# Altium integrated library Lattice SPLD GAL.IntLib: 360 symbols (part 1 of 9)
Pins are listed as number, name and electrical type; pins without a type are passive.

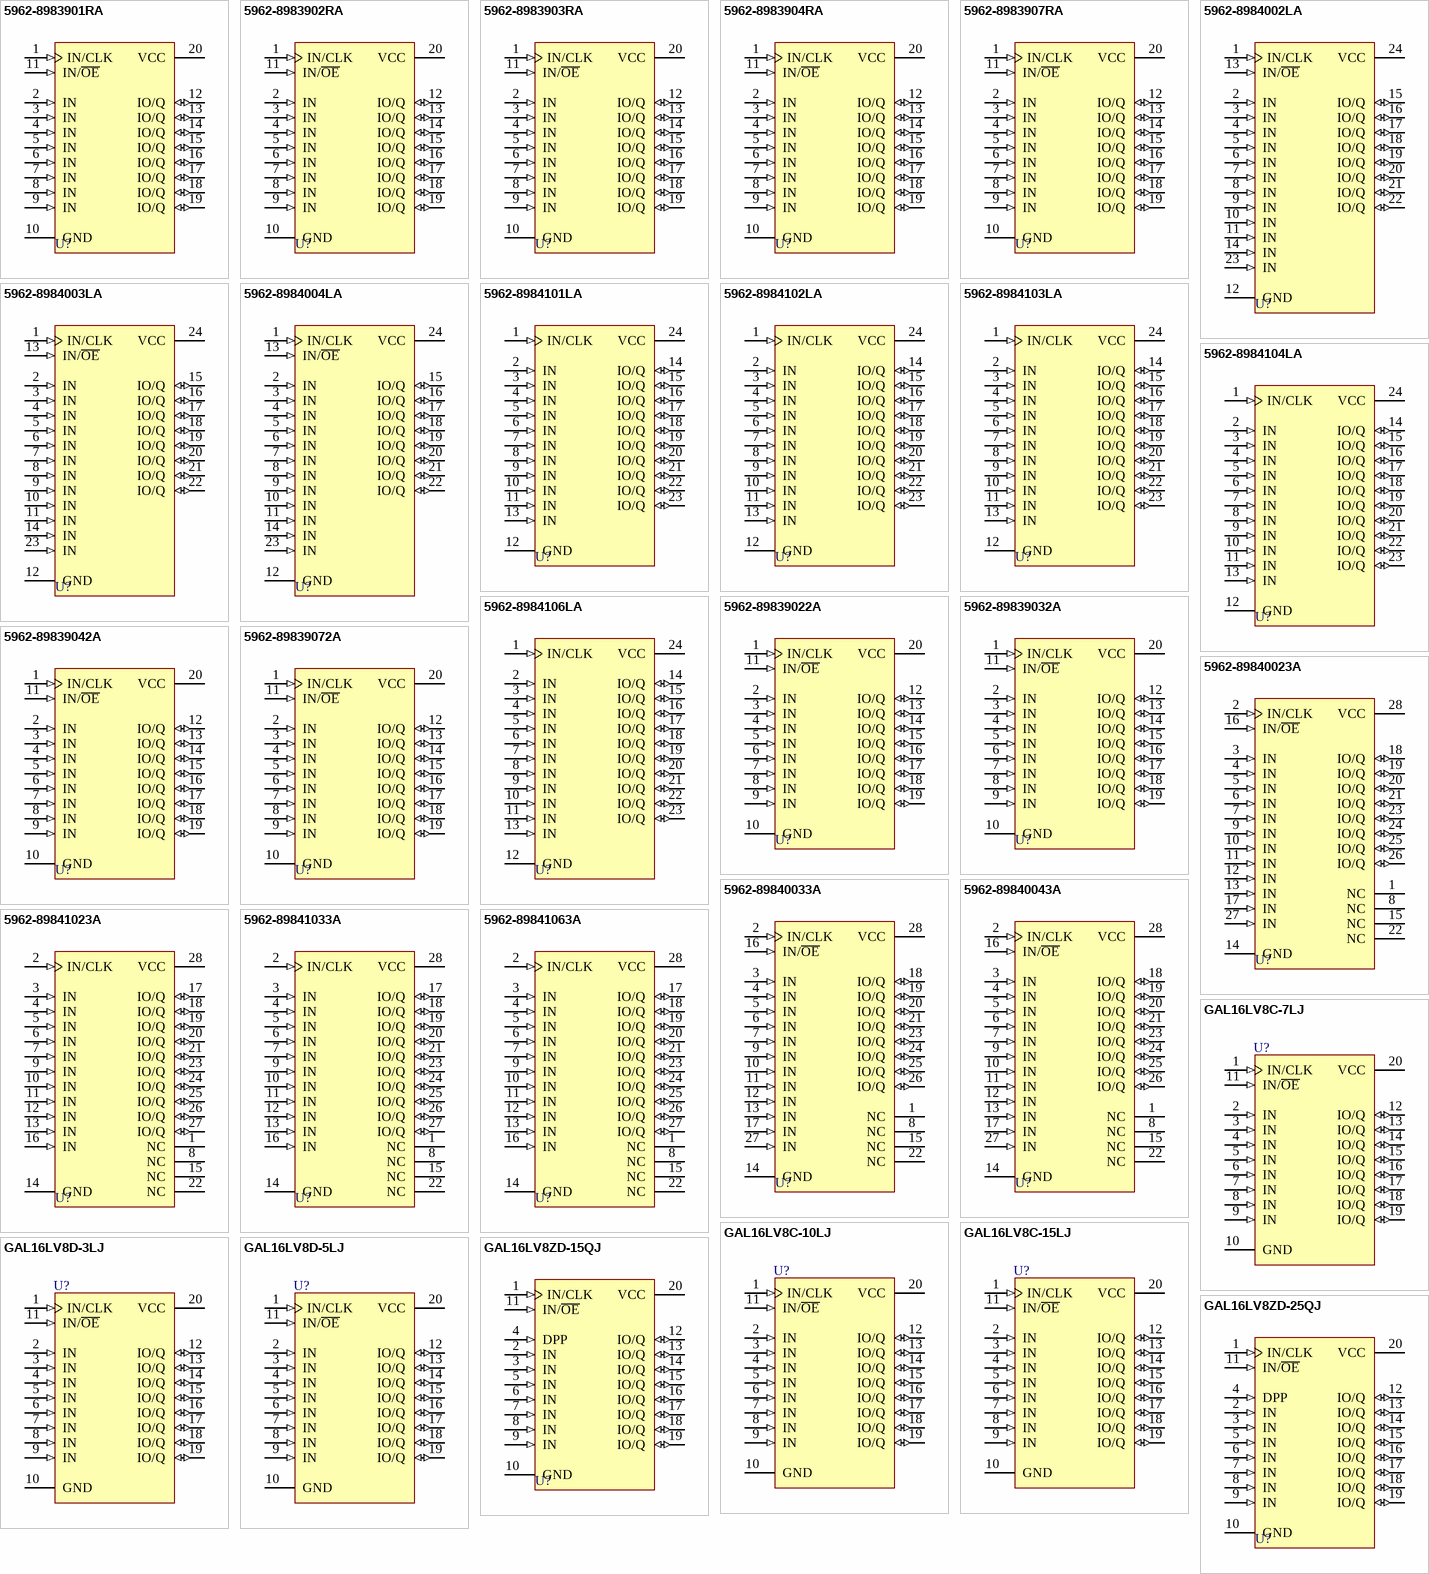
[diagram p0: symbols 5962-8983901RA to GAL16LV8ZD-25QJ]

## 5962-8983901RA
designator U?
GAL16V8/883 High Performance E²CMOS PLD Generic Array Logic: 5.0 V, 30 ns, Military Grade; Published: 17-Jul-2002; LatestRevisionDate: 04-Mar-2005; LatestRevisionNote: Stylized 3D Model Added.; DatasheetVersion: 16v8mil_03, Feb-1999; PackageVersion: pkg_32, Aug-2005; PackageReference: CDIP20; Publisher: Altium Limited; PackageDescription: CerDIP; 20 Leads; Row Spacing 7.62 mm; Pitch 2.54 mm; ComponentLink1Description: Manufacturer Link; ComponentLink1URL: http://www.latticesemi.com/products/spld/GAL/index.cfm; ComponentLink2Description: Datasheet; ComponentLink2URL: http://www.latticesemi.com/lit/docs/military/16v8mil.pdf
footprint CDIP20 (CerDIP; 20 Leads; Row Spacing 7.62 mm; Pitch 2.54 mm)
3D model CDIP20 (CerDIP; 20 Leads; Row Spacing 7.62 mm; Pitch 2.54 mm)
pins: 1 IN/CLK (in), 2 IN (in), 3 IN (in), 4 IN (in), 5 IN (in), 6 IN (in), 7 IN (in), 8 IN (in), 9 IN (in), 10 GND (power), 11 IN/~{OE} (in), 12 IO/Q (io), 13 IO/Q (io), 14 IO/Q (io), 15 IO/Q (io), 16 IO/Q (io), 17 IO/Q (io), 18 IO/Q (io), 19 IO/Q (io), 20 VCC (power)

## 5962-8983902RA
designator U?
GAL16V8/883 High Performance E²CMOS PLD Generic Array Logic: 5.0 V, 20 ns, Military Grade; Published: 17-Jul-2002; LatestRevisionDate: 04-Mar-2005; LatestRevisionNote: Stylized 3D Model Added.; DatasheetVersion: 16v8mil_03, Feb-1999; PackageVersion: pkg_32, Aug-2005; PackageReference: CDIP20; Publisher: Altium Limited; PackageDescription: CerDIP; 20 Leads; Row Spacing 7.62 mm; Pitch 2.54 mm; ComponentLink1Description: Manufacturer Link; ComponentLink1URL: http://www.latticesemi.com/products/spld/GAL/index.cfm; ComponentLink2Description: Datasheet; ComponentLink2URL: http://www.latticesemi.com/lit/docs/military/16v8mil.pdf
footprint CDIP20 (CerDIP; 20 Leads; Row Spacing 7.62 mm; Pitch 2.54 mm)
3D model CDIP20 (CerDIP; 20 Leads; Row Spacing 7.62 mm; Pitch 2.54 mm)
pins: 1 IN/CLK (in), 2 IN (in), 3 IN (in), 4 IN (in), 5 IN (in), 6 IN (in), 7 IN (in), 8 IN (in), 9 IN (in), 10 GND (power), 11 IN/~{OE} (in), 12 IO/Q (io), 13 IO/Q (io), 14 IO/Q (io), 15 IO/Q (io), 16 IO/Q (io), 17 IO/Q (io), 18 IO/Q (io), 19 IO/Q (io), 20 VCC (power)

## 5962-8983903RA
designator U?
GAL16V8/883 High Performance E²CMOS PLD Generic Array Logic: 5.0 V, 15 ns, Military Grade; Published: 17-Jul-2002; LatestRevisionDate: 04-Mar-2005; LatestRevisionNote: Stylized 3D Model Added.; DatasheetVersion: 16v8mil_03, Feb-1999; PackageVersion: pkg_32, Aug-2005; PackageReference: CDIP20; Publisher: Altium Limited; PackageDescription: CerDIP; 20 Leads; Row Spacing 7.62 mm; Pitch 2.54 mm; ComponentLink1Description: Manufacturer Link; ComponentLink1URL: http://www.latticesemi.com/products/spld/GAL/index.cfm; ComponentLink2Description: Datasheet; ComponentLink2URL: http://www.latticesemi.com/lit/docs/military/16v8mil.pdf
footprint CDIP20 (CerDIP; 20 Leads; Row Spacing 7.62 mm; Pitch 2.54 mm)
3D model CDIP20 (CerDIP; 20 Leads; Row Spacing 7.62 mm; Pitch 2.54 mm)
pins: 1 IN/CLK (in), 2 IN (in), 3 IN (in), 4 IN (in), 5 IN (in), 6 IN (in), 7 IN (in), 8 IN (in), 9 IN (in), 10 GND (power), 11 IN/~{OE} (in), 12 IO/Q (io), 13 IO/Q (io), 14 IO/Q (io), 15 IO/Q (io), 16 IO/Q (io), 17 IO/Q (io), 18 IO/Q (io), 19 IO/Q (io), 20 VCC (power)

## 5962-8983904RA
designator U?
GAL16V8/883 High Performance E²CMOS PLD Generic Array Logic: 5.0 V, 10 ns, Military Grade; Published: 17-Jul-2002; LatestRevisionDate: 04-Mar-2005; LatestRevisionNote: Stylized 3D Model Added.; DatasheetVersion: 16v8mil_03, Feb-1999; PackageVersion: pkg_32, Aug-2005; PackageReference: CDIP20; Publisher: Altium Limited; PackageDescription: CerDIP; 20 Leads; Row Spacing 7.62 mm; Pitch 2.54 mm; ComponentLink1Description: Manufacturer Link; ComponentLink1URL: http://www.latticesemi.com/products/spld/GAL/index.cfm; ComponentLink2Description: Datasheet; ComponentLink2URL: http://www.latticesemi.com/lit/docs/military/16v8mil.pdf
footprint CDIP20 (CerDIP; 20 Leads; Row Spacing 7.62 mm; Pitch 2.54 mm)
3D model CDIP20 (CerDIP; 20 Leads; Row Spacing 7.62 mm; Pitch 2.54 mm)
pins: 1 IN/CLK (in), 2 IN (in), 3 IN (in), 4 IN (in), 5 IN (in), 6 IN (in), 7 IN (in), 8 IN (in), 9 IN (in), 10 GND (power), 11 IN/~{OE} (in), 12 IO/Q (io), 13 IO/Q (io), 14 IO/Q (io), 15 IO/Q (io), 16 IO/Q (io), 17 IO/Q (io), 18 IO/Q (io), 19 IO/Q (io), 20 VCC (power)

## 5962-8983907RA
designator U?
GAL16V8/883 High Performance E²CMOS PLD Generic Array Logic: 5.0 V, 7.5 ns, Military Grade; Published: 17-Jul-2002; LatestRevisionDate: 04-Mar-2005; LatestRevisionNote: Stylized 3D Model Added.; DatasheetVersion: 16v8mil_03, Feb-1999; PackageVersion: pkg_32, Aug-2005; PackageReference: CDIP20; Publisher: Altium Limited; PackageDescription: CerDIP; 20 Leads; Row Spacing 7.62 mm; Pitch 2.54 mm; ComponentLink1Description: Manufacturer Link; ComponentLink1URL: http://www.latticesemi.com/products/spld/GAL/index.cfm; ComponentLink2Description: Datasheet; ComponentLink2URL: http://www.latticesemi.com/lit/docs/military/16v8mil.pdf
footprint CDIP20 (CerDIP; 20 Leads; Row Spacing 7.62 mm; Pitch 2.54 mm)
3D model CDIP20 (CerDIP; 20 Leads; Row Spacing 7.62 mm; Pitch 2.54 mm)
pins: 1 IN/CLK (in), 2 IN (in), 3 IN (in), 4 IN (in), 5 IN (in), 6 IN (in), 7 IN (in), 8 IN (in), 9 IN (in), 10 GND (power), 11 IN/~{OE} (in), 12 IO/Q (io), 13 IO/Q (io), 14 IO/Q (io), 15 IO/Q (io), 16 IO/Q (io), 17 IO/Q (io), 18 IO/Q (io), 19 IO/Q (io), 20 VCC (power)

## 5962-8984002LA
designator U?
GAL20V8/883 High Performance E²CMOS PLD Generic Array Logic: 5.0 V, 20 ns, Military Grade; Published: 17-Jul-2002; LatestRevisionDate: 04-Mar-2005; LatestRevisionNote: Stylized 3D Model Added.; DatasheetVersion: 20v8mil_02, Jul-1997; PackageVersion: pkg_32, Aug-2005; PackageReference: CDIP24; Publisher: Altium Limited; PackageDescription: CerDIP; 24 Leads; Row Spacing 7.62 mm; Pitch 2.54 mm; Code_JEDEC: MS-001-AF; ComponentLink1Description: Manufacturer Link; ComponentLink1URL: http://www.latticesemi.com/products/spld/GAL/index.cfm; ComponentLink2Description: Datasheet; ComponentLink2URL: http://www.latticesemi.com/lit/docs/military/20v8mil.pdf
footprint CDIP24 (CerDIP; 24 Leads; Row Spacing 7.62 mm; Pitch 2.54 mm)
3D model DIP24 (CerDIP; 24 Leads; Row Spacing 7.62 mm; Pitch 2.54 mm)
pins: 1 IN/CLK (in), 2 IN (in), 3 IN (in), 4 IN (in), 5 IN (in), 6 IN (in), 7 IN (in), 8 IN (in), 9 IN (in), 10 IN (in), 11 IN (in), 12 GND (power), 13 IN/~{OE} (in), 14 IN (in), 15 IO/Q (io), 16 IO/Q (io), 17 IO/Q (io), 18 IO/Q (io), 19 IO/Q (io), 20 IO/Q (io), 21 IO/Q (io), 22 IO/Q (io), 23 IN (in), 24 VCC (power)

## 5962-8984003LA
designator U?
GAL20V8/883 High Performance E²CMOS PLD Generic Array Logic: 5.0 V, 15 ns, Military Grade; Published: 17-Jul-2002; LatestRevisionDate: 04-Mar-2005; LatestRevisionNote: Stylized 3D Model Added.; DatasheetVersion: 20v8mil_02, Jul-1997; PackageVersion: pkg_32, Aug-2005; PackageReference: CDIP24; Publisher: Altium Limited; PackageDescription: CerDIP; 24 Leads; Row Spacing 7.62 mm; Pitch 2.54 mm; Code_JEDEC: MS-001-AF; ComponentLink1Description: Manufacturer Link; ComponentLink1URL: http://www.latticesemi.com/products/spld/GAL/index.cfm; ComponentLink2Description: Datasheet; ComponentLink2URL: http://www.latticesemi.com/lit/docs/military/20v8mil.pdf
footprint CDIP24 (CerDIP; 24 Leads; Row Spacing 7.62 mm; Pitch 2.54 mm)
3D model DIP24 (CerDIP; 24 Leads; Row Spacing 7.62 mm; Pitch 2.54 mm)
pins: 1 IN/CLK (in), 2 IN (in), 3 IN (in), 4 IN (in), 5 IN (in), 6 IN (in), 7 IN (in), 8 IN (in), 9 IN (in), 10 IN (in), 11 IN (in), 12 GND (power), 13 IN/~{OE} (in), 14 IN (in), 15 IO/Q (io), 16 IO/Q (io), 17 IO/Q (io), 18 IO/Q (io), 19 IO/Q (io), 20 IO/Q (io), 21 IO/Q (io), 22 IO/Q (io), 23 IN (in), 24 VCC (power)

## 5962-8984004LA
designator U?
GAL20V8/883 High Performance E²CMOS PLD Generic Array Logic: 5.0 V, 10 ns, Military Grade; Published: 17-Jul-2002; LatestRevisionDate: 04-Mar-2005; LatestRevisionNote: Stylized 3D Model Added.; DatasheetVersion: 20v8mil_02, Jul-1997; PackageVersion: pkg_32, Aug-2005; PackageReference: CDIP24; Publisher: Altium Limited; PackageDescription: CerDIP; 24 Leads; Row Spacing 7.62 mm; Pitch 2.54 mm; Code_JEDEC: MS-001-AF; ComponentLink1Description: Manufacturer Link; ComponentLink1URL: http://www.latticesemi.com/products/spld/GAL/index.cfm; ComponentLink2Description: Datasheet; ComponentLink2URL: http://www.latticesemi.com/lit/docs/military/20v8mil.pdf
footprint CDIP24 (CerDIP; 24 Leads; Row Spacing 7.62 mm; Pitch 2.54 mm)
3D model DIP24 (CerDIP; 24 Leads; Row Spacing 7.62 mm; Pitch 2.54 mm)
pins: 1 IN/CLK (in), 2 IN (in), 3 IN (in), 4 IN (in), 5 IN (in), 6 IN (in), 7 IN (in), 8 IN (in), 9 IN (in), 10 IN (in), 11 IN (in), 12 GND (power), 13 IN/~{OE} (in), 14 IN (in), 15 IO/Q (io), 16 IO/Q (io), 17 IO/Q (io), 18 IO/Q (io), 19 IO/Q (io), 20 IO/Q (io), 21 IO/Q (io), 22 IO/Q (io), 23 IN (in), 24 VCC (power)

## 5962-8984101LA
designator U?
GAL22V10/883 High Performance E²CMOS PLD Generic Array Logic: 5.0 V, 30 ns, Military Grade; Published: 17-Jul-2002; LatestRevisionDate: 04-Mar-2005; LatestRevisionNote: Stylized 3D Model Added.; DatasheetVersion: 22v10mil_04, Feb-1999; PackageVersion: pkg_32, Aug-2005; PackageReference: CDIP24; Publisher: Altium Limited; PackageDescription: CerDIP; 24 Leads; Row Spacing 7.62 mm; Pitch 2.54 mm; Code_JEDEC: MS-001-AF; ComponentLink1Description: Manufacturer Link; ComponentLink1URL: http://www.latticesemi.com/products/spld/GAL/index.cfm
footprint CDIP24 (CerDIP; 24 Leads; Row Spacing 7.62 mm; Pitch 2.54 mm)
3D model DIP24 (CerDIP; 24 Leads; Row Spacing 7.62 mm; Pitch 2.54 mm)
pins: 1 IN/CLK (in), 2 IN (in), 3 IN (in), 4 IN (in), 5 IN (in), 6 IN (in), 7 IN (in), 8 IN (in), 9 IN (in), 10 IN (in), 11 IN (in), 12 GND (power), 13 IN (in), 14 IO/Q (io), 15 IO/Q (io), 16 IO/Q (io), 17 IO/Q (io), 18 IO/Q (io), 19 IO/Q (io), 20 IO/Q (io), 21 IO/Q (io), 22 IO/Q (io), 23 IO/Q (io), 24 VCC (power)

## 5962-8984102LA
designator U?
GAL22V10/883 High Performance E²CMOS PLD Generic Array Logic: 5.0 V, 20 ns, Military Grade; Published: 17-Jul-2002; LatestRevisionDate: 04-Mar-2005; LatestRevisionNote: Stylized 3D Model Added.; DatasheetVersion: 22v10mil_04, Feb-1999; PackageVersion: pkg_32, Aug-2005; PackageReference: CDIP24; Publisher: Altium Limited; PackageDescription: CerDIP; 24 Leads; Row Spacing 7.62 mm; Pitch 2.54 mm; Code_JEDEC: MS-001-AF; ComponentLink1Description: Manufacturer Link; ComponentLink1URL: http://www.latticesemi.com/products/spld/GAL/index.cfm
footprint CDIP24 (CerDIP; 24 Leads; Row Spacing 7.62 mm; Pitch 2.54 mm)
3D model DIP24 (CerDIP; 24 Leads; Row Spacing 7.62 mm; Pitch 2.54 mm)
pins: 1 IN/CLK (in), 2 IN (in), 3 IN (in), 4 IN (in), 5 IN (in), 6 IN (in), 7 IN (in), 8 IN (in), 9 IN (in), 10 IN (in), 11 IN (in), 12 GND (power), 13 IN (in), 14 IO/Q (io), 15 IO/Q (io), 16 IO/Q (io), 17 IO/Q (io), 18 IO/Q (io), 19 IO/Q (io), 20 IO/Q (io), 21 IO/Q (io), 22 IO/Q (io), 23 IO/Q (io), 24 VCC (power)

## 5962-8984103LA
designator U?
GAL22V10/883 High Performance E²CMOS PLD Generic Array Logic: 5.0 V, 15 ns, Military Grade; Published: 17-Jul-2002; LatestRevisionDate: 04-Mar-2005; LatestRevisionNote: Stylized 3D Model Added.; DatasheetVersion: 22v10mil_04, Feb-1999; PackageVersion: pkg_32, Aug-2005; PackageReference: CDIP24; Publisher: Altium Limited; PackageDescription: CerDIP; 24 Leads; Row Spacing 7.62 mm; Pitch 2.54 mm; Code_JEDEC: MS-001-AF; ComponentLink1Description: Manufacturer Link; ComponentLink1URL: http://www.latticesemi.com/products/spld/GAL/index.cfm
footprint CDIP24 (CerDIP; 24 Leads; Row Spacing 7.62 mm; Pitch 2.54 mm)
3D model DIP24 (CerDIP; 24 Leads; Row Spacing 7.62 mm; Pitch 2.54 mm)
pins: 1 IN/CLK (in), 2 IN (in), 3 IN (in), 4 IN (in), 5 IN (in), 6 IN (in), 7 IN (in), 8 IN (in), 9 IN (in), 10 IN (in), 11 IN (in), 12 GND (power), 13 IN (in), 14 IO/Q (io), 15 IO/Q (io), 16 IO/Q (io), 17 IO/Q (io), 18 IO/Q (io), 19 IO/Q (io), 20 IO/Q (io), 21 IO/Q (io), 22 IO/Q (io), 23 IO/Q (io), 24 VCC (power)

## 5962-8984104LA
designator U?
GAL22V10/883 High Performance E²CMOS PLD Generic Array Logic: 5.0 V, 25 ns, Military Grade; Published: 17-Jul-2002; LatestRevisionDate: 04-Mar-2005; LatestRevisionNote: Stylized 3D Model Added.; DatasheetVersion: 22v10mil_04, Feb-1999; PackageVersion: pkg_32, Aug-2005; PackageReference: CDIP24; Publisher: Altium Limited; PackageDescription: CerDIP; 24 Leads; Row Spacing 7.62 mm; Pitch 2.54 mm; Code_JEDEC: MS-001-AF; ComponentLink1Description: Manufacturer Link; ComponentLink1URL: http://www.latticesemi.com/products/spld/GAL/index.cfm
footprint CDIP24 (CerDIP; 24 Leads; Row Spacing 7.62 mm; Pitch 2.54 mm)
3D model DIP24 (CerDIP; 24 Leads; Row Spacing 7.62 mm; Pitch 2.54 mm)
pins: 1 IN/CLK (in), 2 IN (in), 3 IN (in), 4 IN (in), 5 IN (in), 6 IN (in), 7 IN (in), 8 IN (in), 9 IN (in), 10 IN (in), 11 IN (in), 12 GND (power), 13 IN (in), 14 IO/Q (io), 15 IO/Q (io), 16 IO/Q (io), 17 IO/Q (io), 18 IO/Q (io), 19 IO/Q (io), 20 IO/Q (io), 21 IO/Q (io), 22 IO/Q (io), 23 IO/Q (io), 24 VCC (power)

## 5962-8984106LA
designator U?
GAL22V10/883 High Performance E²CMOS PLD Generic Array Logic: 5.0 V, 10 ns, Military Grade; Published: 17-Jul-2002; LatestRevisionDate: 04-Mar-2005; LatestRevisionNote: Stylized 3D Model Added.; DatasheetVersion: 22v10mil_04, Feb-1999; PackageVersion: pkg_32, Aug-2005; PackageReference: CDIP24; Publisher: Altium Limited; PackageDescription: CerDIP; 24 Leads; Row Spacing 7.62 mm; Pitch 2.54 mm; Code_JEDEC: MS-001-AF; ComponentLink1Description: Manufacturer Link; ComponentLink1URL: http://www.latticesemi.com/products/spld/GAL/index.cfm
footprint CDIP24 (CerDIP; 24 Leads; Row Spacing 7.62 mm; Pitch 2.54 mm)
3D model DIP24 (CerDIP; 24 Leads; Row Spacing 7.62 mm; Pitch 2.54 mm)
pins: 1 IN/CLK (in), 2 IN (in), 3 IN (in), 4 IN (in), 5 IN (in), 6 IN (in), 7 IN (in), 8 IN (in), 9 IN (in), 10 IN (in), 11 IN (in), 12 GND (power), 13 IN (in), 14 IO/Q (io), 15 IO/Q (io), 16 IO/Q (io), 17 IO/Q (io), 18 IO/Q (io), 19 IO/Q (io), 20 IO/Q (io), 21 IO/Q (io), 22 IO/Q (io), 23 IO/Q (io), 24 VCC (power)

## 5962-89839022A
designator U?
GAL16V8/883 High Performance E²CMOS PLD Generic Array Logic: 5.0 V, 20 ns, Military Grade; Published: 17-Jul-2002; DatasheetVersion: 16v8mil_03, Feb-1999; PackageVersion: pkg_32, Aug-2005; PackageReference: LCC20; Publisher: Altium Limited; PackageDescription: Leadless Chip Carrier; 20 Terminals; Body 8.9 x 8.9 mm; ComponentLink1Description: Manufacturer Link; ComponentLink1URL: http://www.latticesemi.com/products/spld/GAL/index.cfm; ComponentLink2Description: Datasheet; ComponentLink2URL: http://www.latticesemi.com/lit/docs/military/16v8mil.pdf
footprint LCC20 (Leadless Chip Carrier; 20 Terminals; Body 8.9 x 8.9 mm)
pins: 1 IN/CLK (in), 2 IN (in), 3 IN (in), 4 IN (in), 5 IN (in), 6 IN (in), 7 IN (in), 8 IN (in), 9 IN (in), 10 GND (power), 11 IN/~{OE} (in), 12 IO/Q (io), 13 IO/Q (io), 14 IO/Q (io), 15 IO/Q (io), 16 IO/Q (io), 17 IO/Q (io), 18 IO/Q (io), 19 IO/Q (io), 20 VCC (power)

## 5962-89839032A
designator U?
GAL16V8/883 High Performance E²CMOS PLD Generic Array Logic: 5.0 V, 15 ns, Military Grade; Published: 17-Jul-2002; DatasheetVersion: 16v8mil_03, Feb-1999; PackageVersion: pkg_32, Aug-2005; PackageReference: LCC20; Publisher: Altium Limited; PackageDescription: Leadless Chip Carrier; 20 Terminals; Body 8.9 x 8.9 mm; ComponentLink1Description: Manufacturer Link; ComponentLink1URL: http://www.latticesemi.com/products/spld/GAL/index.cfm; ComponentLink2Description: Datasheet; ComponentLink2URL: http://www.latticesemi.com/lit/docs/military/16v8mil.pdf
footprint LCC20 (Leadless Chip Carrier; 20 Terminals; Body 8.9 x 8.9 mm)
pins: 1 IN/CLK (in), 2 IN (in), 3 IN (in), 4 IN (in), 5 IN (in), 6 IN (in), 7 IN (in), 8 IN (in), 9 IN (in), 10 GND (power), 11 IN/~{OE} (in), 12 IO/Q (io), 13 IO/Q (io), 14 IO/Q (io), 15 IO/Q (io), 16 IO/Q (io), 17 IO/Q (io), 18 IO/Q (io), 19 IO/Q (io), 20 VCC (power)

## 5962-89839042A
designator U?
GAL16V8/883 High Performance E²CMOS PLD Generic Array Logic: 5.0 V, 10 ns, Military Grade; Published: 17-Jul-2002; DatasheetVersion: 16v8mil_03, Feb-1999; PackageVersion: pkg_32, Aug-2005; PackageReference: LCC20; Publisher: Altium Limited; PackageDescription: Leadless Chip Carrier; 20 Terminals; Body 8.9 x 8.9 mm; ComponentLink1Description: Manufacturer Link; ComponentLink1URL: http://www.latticesemi.com/products/spld/GAL/index.cfm; ComponentLink2Description: Datasheet; ComponentLink2URL: http://www.latticesemi.com/lit/docs/military/16v8mil.pdf
footprint LCC20 (Leadless Chip Carrier; 20 Terminals; Body 8.9 x 8.9 mm)
pins: 1 IN/CLK (in), 2 IN (in), 3 IN (in), 4 IN (in), 5 IN (in), 6 IN (in), 7 IN (in), 8 IN (in), 9 IN (in), 10 GND (power), 11 IN/~{OE} (in), 12 IO/Q (io), 13 IO/Q (io), 14 IO/Q (io), 15 IO/Q (io), 16 IO/Q (io), 17 IO/Q (io), 18 IO/Q (io), 19 IO/Q (io), 20 VCC (power)

## 5962-89839072A
designator U?
GAL16V8/883 High Performance E²CMOS PLD Generic Array Logic: 5.0 V, 7.5 ns, Military Grade; Published: 17-Jul-2002; DatasheetVersion: 16v8mil_03, Feb-1999; PackageVersion: pkg_32, Aug-2005; PackageReference: LCC20; Publisher: Altium Limited; PackageDescription: Leadless Chip Carrier; 20 Terminals; Body 8.9 x 8.9 mm; ComponentLink1Description: Manufacturer Link; ComponentLink1URL: http://www.latticesemi.com/products/spld/GAL/index.cfm; ComponentLink2Description: Datasheet; ComponentLink2URL: http://www.latticesemi.com/lit/docs/military/16v8mil.pdf
footprint LCC20 (Leadless Chip Carrier; 20 Terminals; Body 8.9 x 8.9 mm)
pins: 1 IN/CLK (in), 2 IN (in), 3 IN (in), 4 IN (in), 5 IN (in), 6 IN (in), 7 IN (in), 8 IN (in), 9 IN (in), 10 GND (power), 11 IN/~{OE} (in), 12 IO/Q (io), 13 IO/Q (io), 14 IO/Q (io), 15 IO/Q (io), 16 IO/Q (io), 17 IO/Q (io), 18 IO/Q (io), 19 IO/Q (io), 20 VCC (power)

## 5962-89840023A
designator U?
GAL20V8/883 High Performance E²CMOS PLD Generic Array Logic: 5.0 V, 20 ns, Military Grade; Published: 17-Jul-2002; DatasheetVersion: 20v8mil_02, Jul-1997; PackageVersion: pkg_32, Aug-2005; PackageReference: LCC28; Publisher: Altium Limited; PackageDescription: Leadless Chip Carrier; 28 Terminals; Body 11.5 x 11.5 mm; ComponentLink1Description: Manufacturer Link; ComponentLink1URL: http://www.latticesemi.com/products/spld/GAL/index.cfm; ComponentLink2Description: Datasheet; ComponentLink2URL: http://www.latticesemi.com/lit/docs/military/20v8mil.pdf
footprint LCC28 (Leadless Chip Carrier; 28 Terminals; Body 11.5 x 11.5 mm)
pins: 1 NC, 2 IN/CLK (in), 3 IN (in), 4 IN (in), 5 IN (in), 6 IN (in), 7 IN (in), 8 NC, 9 IN (in), 10 IN (in), 11 IN (in), 12 IN (in), 13 IN (in), 14 GND (power), 15 NC, 16 IN/~{OE} (in), 17 IN (in), 18 IO/Q (io), 19 IO/Q (io), 20 IO/Q (io), 21 IO/Q (io), 22 NC, 23 IO/Q (io), 24 IO/Q (io), 25 IO/Q (io), 26 IO/Q (io), 27 IN (in), 28 VCC (power)

## 5962-89840033A
designator U?
GAL20V8/883 High Performance E²CMOS PLD Generic Array Logic: 5.0 V, 15 ns, Military Grade; Published: 17-Jul-2002; DatasheetVersion: 20v8mil_02, Jul-1997; PackageVersion: pkg_32, Aug-2005; PackageReference: LCC28; Publisher: Altium Limited; PackageDescription: Leadless Chip Carrier; 28 Terminals; Body 11.5 x 11.5 mm; ComponentLink1Description: Manufacturer Link; ComponentLink1URL: http://www.latticesemi.com/products/spld/GAL/index.cfm; ComponentLink2Description: Datasheet; ComponentLink2URL: http://www.latticesemi.com/lit/docs/military/20v8mil.pdf
footprint LCC28 (Leadless Chip Carrier; 28 Terminals; Body 11.5 x 11.5 mm)
pins: 1 NC, 2 IN/CLK (in), 3 IN (in), 4 IN (in), 5 IN (in), 6 IN (in), 7 IN (in), 8 NC, 9 IN (in), 10 IN (in), 11 IN (in), 12 IN (in), 13 IN (in), 14 GND (power), 15 NC, 16 IN/~{OE} (in), 17 IN (in), 18 IO/Q (io), 19 IO/Q (io), 20 IO/Q (io), 21 IO/Q (io), 22 NC, 23 IO/Q (io), 24 IO/Q (io), 25 IO/Q (io), 26 IO/Q (io), 27 IN (in), 28 VCC (power)

## 5962-89840043A
designator U?
GAL20V8/883 High Performance E²CMOS PLD Generic Array Logic: 5.0 V, 10 ns, Military Grade; Published: 17-Jul-2002; DatasheetVersion: 20v8mil_02, Jul-1997; PackageVersion: pkg_32, Aug-2005; PackageReference: LCC28; Publisher: Altium Limited; PackageDescription: Leadless Chip Carrier; 28 Terminals; Body 11.5 x 11.5 mm; ComponentLink1Description: Manufacturer Link; ComponentLink1URL: http://www.latticesemi.com/products/spld/GAL/index.cfm; ComponentLink2Description: Datasheet; ComponentLink2URL: http://www.latticesemi.com/lit/docs/military/20v8mil.pdf
footprint LCC28 (Leadless Chip Carrier; 28 Terminals; Body 11.5 x 11.5 mm)
pins: 1 NC, 2 IN/CLK (in), 3 IN (in), 4 IN (in), 5 IN (in), 6 IN (in), 7 IN (in), 8 NC, 9 IN (in), 10 IN (in), 11 IN (in), 12 IN (in), 13 IN (in), 14 GND (power), 15 NC, 16 IN/~{OE} (in), 17 IN (in), 18 IO/Q (io), 19 IO/Q (io), 20 IO/Q (io), 21 IO/Q (io), 22 NC, 23 IO/Q (io), 24 IO/Q (io), 25 IO/Q (io), 26 IO/Q (io), 27 IN (in), 28 VCC (power)

## 5962-89841023A
designator U?
GAL22V10/883 High Performance E²CMOS PLD Generic Array Logic: 5.0 V, 20 ns, Military Grade; Published: 17-Jul-2002; DatasheetVersion: 22v10mil_04, Feb-1999; PackageVersion: pkg_32, Aug-2005; PackageReference: LCC28; Publisher: Altium Limited; PackageDescription: Leadless Chip Carrier; 28 Terminals; Body 11.5 x 11.5 mm; ComponentLink1Description: Manufacturer Link; ComponentLink1URL: http://www.latticesemi.com/products/spld/GAL/index.cfm
footprint LCC28 (Leadless Chip Carrier; 28 Terminals; Body 11.5 x 11.5 mm)
pins: 1 NC, 2 IN/CLK (in), 3 IN (in), 4 IN (in), 5 IN (in), 6 IN (in), 7 IN (in), 8 NC, 9 IN (in), 10 IN (in), 11 IN (in), 12 IN (in), 13 IN (in), 14 GND (power), 15 NC, 16 IN (in), 17 IO/Q (io), 18 IO/Q (io), 19 IO/Q (io), 20 IO/Q (io), 21 IO/Q (io), 22 NC, 23 IO/Q (io), 24 IO/Q (io), 25 IO/Q (io), 26 IO/Q (io), 27 IO/Q (io), 28 VCC (power)

## 5962-89841033A
designator U?
GAL22V10/883 High Performance E²CMOS PLD Generic Array Logic: 5.0 V, 15 ns, Military Grade; Published: 17-Jul-2002; DatasheetVersion: 22v10mil_04, Feb-1999; PackageVersion: pkg_32, Aug-2005; PackageReference: LCC28; Publisher: Altium Limited; PackageDescription: Leadless Chip Carrier; 28 Terminals; Body 11.5 x 11.5 mm; ComponentLink1Description: Manufacturer Link; ComponentLink1URL: http://www.latticesemi.com/products/spld/GAL/index.cfm
footprint LCC28 (Leadless Chip Carrier; 28 Terminals; Body 11.5 x 11.5 mm)
pins: 1 NC, 2 IN/CLK (in), 3 IN (in), 4 IN (in), 5 IN (in), 6 IN (in), 7 IN (in), 8 NC, 9 IN (in), 10 IN (in), 11 IN (in), 12 IN (in), 13 IN (in), 14 GND (power), 15 NC, 16 IN (in), 17 IO/Q (io), 18 IO/Q (io), 19 IO/Q (io), 20 IO/Q (io), 21 IO/Q (io), 22 NC, 23 IO/Q (io), 24 IO/Q (io), 25 IO/Q (io), 26 IO/Q (io), 27 IO/Q (io), 28 VCC (power)

## 5962-89841063A
designator U?
GAL22V10/883 High Performance E²CMOS PLD Generic Array Logic: 5.0 V, 10 ns, Military Grade; Published: 17-Jul-2002; DatasheetVersion: 22v10mil_04, Feb-1999; PackageVersion: pkg_32, Aug-2005; PackageReference: LCC28; Publisher: Altium Limited; PackageDescription: Leadless Chip Carrier; 28 Terminals; Body 11.5 x 11.5 mm; ComponentLink1Description: Manufacturer Link; ComponentLink1URL: http://www.latticesemi.com/products/spld/GAL/index.cfm
footprint LCC28 (Leadless Chip Carrier; 28 Terminals; Body 11.5 x 11.5 mm)
pins: 1 NC, 2 IN/CLK (in), 3 IN (in), 4 IN (in), 5 IN (in), 6 IN (in), 7 IN (in), 8 NC, 9 IN (in), 10 IN (in), 11 IN (in), 12 IN (in), 13 IN (in), 14 GND (power), 15 NC, 16 IN (in), 17 IO/Q (io), 18 IO/Q (io), 19 IO/Q (io), 20 IO/Q (io), 21 IO/Q (io), 22 NC, 23 IO/Q (io), 24 IO/Q (io), 25 IO/Q (io), 26 IO/Q (io), 27 IO/Q (io), 28 VCC (power)

## GAL16LV8C-7LJ
designator U?
GAL16LV8 E²CMOS PLD Generic Array Logic: 3.3 V, 7.5 ns, Commercial Grade; Published: 17-Jul-2002; LatestRevisionDate: 13-Apr-2006; LatestRevisionNote: IPC-7351 Footprint Added.; DatasheetVersion: 16lv8_04, Dec-1997; PackageVersion: pkg_32, Aug-2005; PackageReference: PLCC20; Publisher: Altium Limited; PackageDescription: 20-Pin Leaded Chip Carrier 1.27 mm Pitch; Code_IPC: PLCC-20; ComponentLink1Description: Manufacturer Link; ComponentLink1URL: http://www.latticesemi.com/products/spld/GAL/index.cfm; ComponentLink2Description: Datasheet; ComponentLink2URL: http://www.latticesemi.com/lit/docs/datasheets/pal_gal/16lv8.pdf
footprint PLCC20_N (Leaded Chip Carrier, 20-Leads, Body 9x9mm, Pitch 1.27mm, IPC Medium Density)
footprint PLCC20_L (Leaded Chip Carrier, 20-Leads, Body 9x9mm, Pitch 1.27mm, IPC High Density)
footprint PLCC20_M (Leaded Chip Carrier, 20-Leads, Body 9x9mm, Pitch 1.27mm, IPC Low Density)
3D model 16LV8-PLCC20 (20-Pin Leaded Chip Carrier 1.27 mm Pitch)
pins: 1 IN/CLK (in), 2 IN (in), 3 IN (in), 4 IN (in), 5 IN (in), 6 IN (in), 7 IN (in), 8 IN (in), 9 IN (in), 10 GND (power), 11 IN/~{OE} (in), 12 IO/Q (io), 13 IO/Q (io), 14 IO/Q (io), 15 IO/Q (io), 16 IO/Q (io), 17 IO/Q (io), 18 IO/Q (io), 19 IO/Q (io), 20 VCC (power)

## GAL16LV8C-10LJ
designator U?
GAL16LV8 E²CMOS PLD Generic Array Logic: 3.3 V, 10 ns, Commercial Grade; Published: 17-Jul-2002; LatestRevisionDate: 13-Apr-2006; LatestRevisionNote: IPC-7351 Footprint Added.; DatasheetVersion: 16lv8_04, Dec-1997; PackageVersion: pkg_32, Aug-2005; PackageReference: PLCC20; Publisher: Altium Limited; PackageDescription: 20-Pin Leaded Chip Carrier 1.27 mm Pitch; Code_IPC: PLCC-20; ComponentLink1Description: Manufacturer Link; ComponentLink1URL: http://www.latticesemi.com/products/spld/GAL/index.cfm; ComponentLink2Description: Datasheet; ComponentLink2URL: http://www.latticesemi.com/lit/docs/datasheets/pal_gal/16lv8.pdf
footprint PLCC20_N (Leaded Chip Carrier, 20-Leads, Body 9x9mm, Pitch 1.27mm, IPC Medium Density)
footprint PLCC20_L (Leaded Chip Carrier, 20-Leads, Body 9x9mm, Pitch 1.27mm, IPC High Density)
footprint PLCC20_M (Leaded Chip Carrier, 20-Leads, Body 9x9mm, Pitch 1.27mm, IPC Low Density)
3D model 16LV8-PLCC20 (20-Pin Leaded Chip Carrier 1.27 mm Pitch)
pins: 1 IN/CLK (in), 2 IN (in), 3 IN (in), 4 IN (in), 5 IN (in), 6 IN (in), 7 IN (in), 8 IN (in), 9 IN (in), 10 GND (power), 11 IN/~{OE} (in), 12 IO/Q (io), 13 IO/Q (io), 14 IO/Q (io), 15 IO/Q (io), 16 IO/Q (io), 17 IO/Q (io), 18 IO/Q (io), 19 IO/Q (io), 20 VCC (power)

## GAL16LV8C-15LJ
designator U?
GAL16LV8 E²CMOS PLD Generic Array Logic: 3.3 V, 15 ns, Commercial Grade; Published: 17-Jul-2002; LatestRevisionDate: 13-Apr-2006; LatestRevisionNote: IPC-7351 Footprint Added.; DatasheetVersion: 16lv8_04, Dec-1997; PackageVersion: pkg_32, Aug-2005; PackageReference: PLCC20; Publisher: Altium Limited; PackageDescription: 20-Pin Leaded Chip Carrier 1.27 mm Pitch; Code_IPC: PLCC-20; ComponentLink1Description: Manufacturer Link; ComponentLink1URL: http://www.latticesemi.com/products/spld/GAL/index.cfm; ComponentLink2Description: Datasheet; ComponentLink2URL: http://www.latticesemi.com/lit/docs/datasheets/pal_gal/16lv8.pdf
footprint PLCC20_N (Leaded Chip Carrier, 20-Leads, Body 9x9mm, Pitch 1.27mm, IPC Medium Density)
footprint PLCC20_L (Leaded Chip Carrier, 20-Leads, Body 9x9mm, Pitch 1.27mm, IPC High Density)
footprint PLCC20_M (Leaded Chip Carrier, 20-Leads, Body 9x9mm, Pitch 1.27mm, IPC Low Density)
3D model 16LV8-PLCC20 (20-Pin Leaded Chip Carrier 1.27 mm Pitch)
pins: 1 IN/CLK (in), 2 IN (in), 3 IN (in), 4 IN (in), 5 IN (in), 6 IN (in), 7 IN (in), 8 IN (in), 9 IN (in), 10 GND (power), 11 IN/~{OE} (in), 12 IO/Q (io), 13 IO/Q (io), 14 IO/Q (io), 15 IO/Q (io), 16 IO/Q (io), 17 IO/Q (io), 18 IO/Q (io), 19 IO/Q (io), 20 VCC (power)

## GAL16LV8D-3LJ
designator U?
GAL16LV8 E²CMOS PLD Generic Array Logic: 3.3 V, 3.5 ns, Commercial Grade; Published: 17-Jul-2002; LatestRevisionDate: 13-Apr-2006; LatestRevisionNote: IPC-7351 Footprint Added.; DatasheetVersion: 16lv8_04, Dec-1997; PackageVersion: pkg_32, Aug-2005; PackageReference: PLCC20; Publisher: Altium Limited; PackageDescription: 20-Pin Leaded Chip Carrier 1.27 mm Pitch; Code_IPC: PLCC-20; ComponentLink1Description: Manufacturer Link; ComponentLink1URL: http://www.latticesemi.com/products/spld/GAL/index.cfm; ComponentLink2Description: Datasheet; ComponentLink2URL: http://www.latticesemi.com/lit/docs/datasheets/pal_gal/16lv8.pdf
footprint PLCC20_N (Leaded Chip Carrier, 20-Leads, Body 9x9mm, Pitch 1.27mm, IPC Medium Density)
footprint PLCC20_L (Leaded Chip Carrier, 20-Leads, Body 9x9mm, Pitch 1.27mm, IPC High Density)
footprint PLCC20_M (Leaded Chip Carrier, 20-Leads, Body 9x9mm, Pitch 1.27mm, IPC Low Density)
3D model 16LV8-PLCC20 (20-Pin Leaded Chip Carrier 1.27 mm Pitch)
pins: 1 IN/CLK (in), 2 IN (in), 3 IN (in), 4 IN (in), 5 IN (in), 6 IN (in), 7 IN (in), 8 IN (in), 9 IN (in), 10 GND (power), 11 IN/~{OE} (in), 12 IO/Q (io), 13 IO/Q (io), 14 IO/Q (io), 15 IO/Q (io), 16 IO/Q (io), 17 IO/Q (io), 18 IO/Q (io), 19 IO/Q (io), 20 VCC (power)

## GAL16LV8D-5LJ
designator U?
GAL16LV8 E²CMOS PLD Generic Array Logic: 3.3 V, 5.0 ns, Commercial Grade; Published: 17-Jul-2002; LatestRevisionDate: 13-Apr-2006; LatestRevisionNote: IPC-7351 Footprint Added.; DatasheetVersion: 16lv8_04, Dec-1997; PackageVersion: pkg_32, Aug-2005; PackageReference: PLCC20; Publisher: Altium Limited; PackageDescription: 20-Pin Leaded Chip Carrier 1.27 mm Pitch; Code_IPC: PLCC-20; ComponentLink1Description: Manufacturer Link; ComponentLink1URL: http://www.latticesemi.com/products/spld/GAL/index.cfm; ComponentLink2Description: Datasheet; ComponentLink2URL: http://www.latticesemi.com/lit/docs/datasheets/pal_gal/16lv8.pdf
footprint PLCC20_N (Leaded Chip Carrier, 20-Leads, Body 9x9mm, Pitch 1.27mm, IPC Medium Density)
footprint PLCC20_L (Leaded Chip Carrier, 20-Leads, Body 9x9mm, Pitch 1.27mm, IPC High Density)
footprint PLCC20_M (Leaded Chip Carrier, 20-Leads, Body 9x9mm, Pitch 1.27mm, IPC Low Density)
3D model 16LV8-PLCC20 (20-Pin Leaded Chip Carrier 1.27 mm Pitch)
pins: 1 IN/CLK (in), 2 IN (in), 3 IN (in), 4 IN (in), 5 IN (in), 6 IN (in), 7 IN (in), 8 IN (in), 9 IN (in), 10 GND (power), 11 IN/~{OE} (in), 12 IO/Q (io), 13 IO/Q (io), 14 IO/Q (io), 15 IO/Q (io), 16 IO/Q (io), 17 IO/Q (io), 18 IO/Q (io), 19 IO/Q (io), 20 VCC (power)

## GAL16LV8ZD-15QJ
designator U?
GAL16LV8ZD Zero Power E²CMOS PLD Generic Array Logic: 3.3 V, 15 ns, Commercial Grade; Published: 17-Jul-2002; LatestRevisionDate: 13-Apr-2006; LatestRevisionNote: IPC-7351 Footprint Added.; DatasheetVersion: 16lv8zd_03, Dec-1997; PackageVersion: pkg_32, Aug-2005; PackageReference: PLCC20; Publisher: Altium Limited; PackageDescription: 20-Pin Leaded Chip Carrier 1.27 mm Pitch; Code_IPC: PLCC-20; ComponentLink1Description: Manufacturer Link; ComponentLink1URL: http://www.latticesemi.com/products/spld/GAL/index.cfm; ComponentLink2Description: Datasheet; ComponentLink2URL: http://www.latticesemi.com/lit/docs/datasheets/pal_gal/16lv8zd.pdf
footprint PLCC20_N (Leaded Chip Carrier, 20-Leads, Body 9x9mm, Pitch 1.27mm, IPC Medium Density)
footprint PLCC20_L (Leaded Chip Carrier, 20-Leads, Body 9x9mm, Pitch 1.27mm, IPC High Density)
footprint PLCC20_M (Leaded Chip Carrier, 20-Leads, Body 9x9mm, Pitch 1.27mm, IPC Low Density)
3D model 16LV8ZD-PLCC20 (20-Pin Leaded Chip Carrier 1.27 mm Pitch)
pins: 1 IN/CLK (in), 2 IN (in), 3 IN (in), 4 DPP (in), 5 IN (in), 6 IN (in), 7 IN (in), 8 IN (in), 9 IN (in), 10 GND (power), 11 IN/~{OE} (in), 12 IO/Q (io), 13 IO/Q (io), 14 IO/Q (io), 15 IO/Q (io), 16 IO/Q (io), 17 IO/Q (io), 18 IO/Q (io), 19 IO/Q (io), 20 VCC (power)

## GAL16LV8ZD-25QJ
designator U?
GAL16LV8ZD Zero Power E²CMOS PLD Generic Array Logic: 3.3 V, 25 ns, Commercial Grade; Published: 17-Jul-2002; LatestRevisionDate: 13-Apr-2006; LatestRevisionNote: IPC-7351 Footprint Added.; DatasheetVersion: 16lv8zd_03, Dec-1997; PackageVersion: pkg_32, Aug-2005; PackageReference: PLCC20; Publisher: Altium Limited; PackageDescription: 20-Pin Leaded Chip Carrier 1.27 mm Pitch; Code_IPC: PLCC-20; ComponentLink1Description: Manufacturer Link; ComponentLink1URL: http://www.latticesemi.com/products/spld/GAL/index.cfm; ComponentLink2Description: Datasheet; ComponentLink2URL: http://www.latticesemi.com/lit/docs/datasheets/pal_gal/16lv8zd.pdf
footprint PLCC20_N (Leaded Chip Carrier, 20-Leads, Body 9x9mm, Pitch 1.27mm, IPC Medium Density)
footprint PLCC20_L (Leaded Chip Carrier, 20-Leads, Body 9x9mm, Pitch 1.27mm, IPC High Density)
footprint PLCC20_M (Leaded Chip Carrier, 20-Leads, Body 9x9mm, Pitch 1.27mm, IPC Low Density)
3D model 16LV8ZD-PLCC20 (20-Pin Leaded Chip Carrier 1.27 mm Pitch)
pins: 1 IN/CLK (in), 2 IN (in), 3 IN (in), 4 DPP (in), 5 IN (in), 6 IN (in), 7 IN (in), 8 IN (in), 9 IN (in), 10 GND (power), 11 IN/~{OE} (in), 12 IO/Q (io), 13 IO/Q (io), 14 IO/Q (io), 15 IO/Q (io), 16 IO/Q (io), 17 IO/Q (io), 18 IO/Q (io), 19 IO/Q (io), 20 VCC (power)

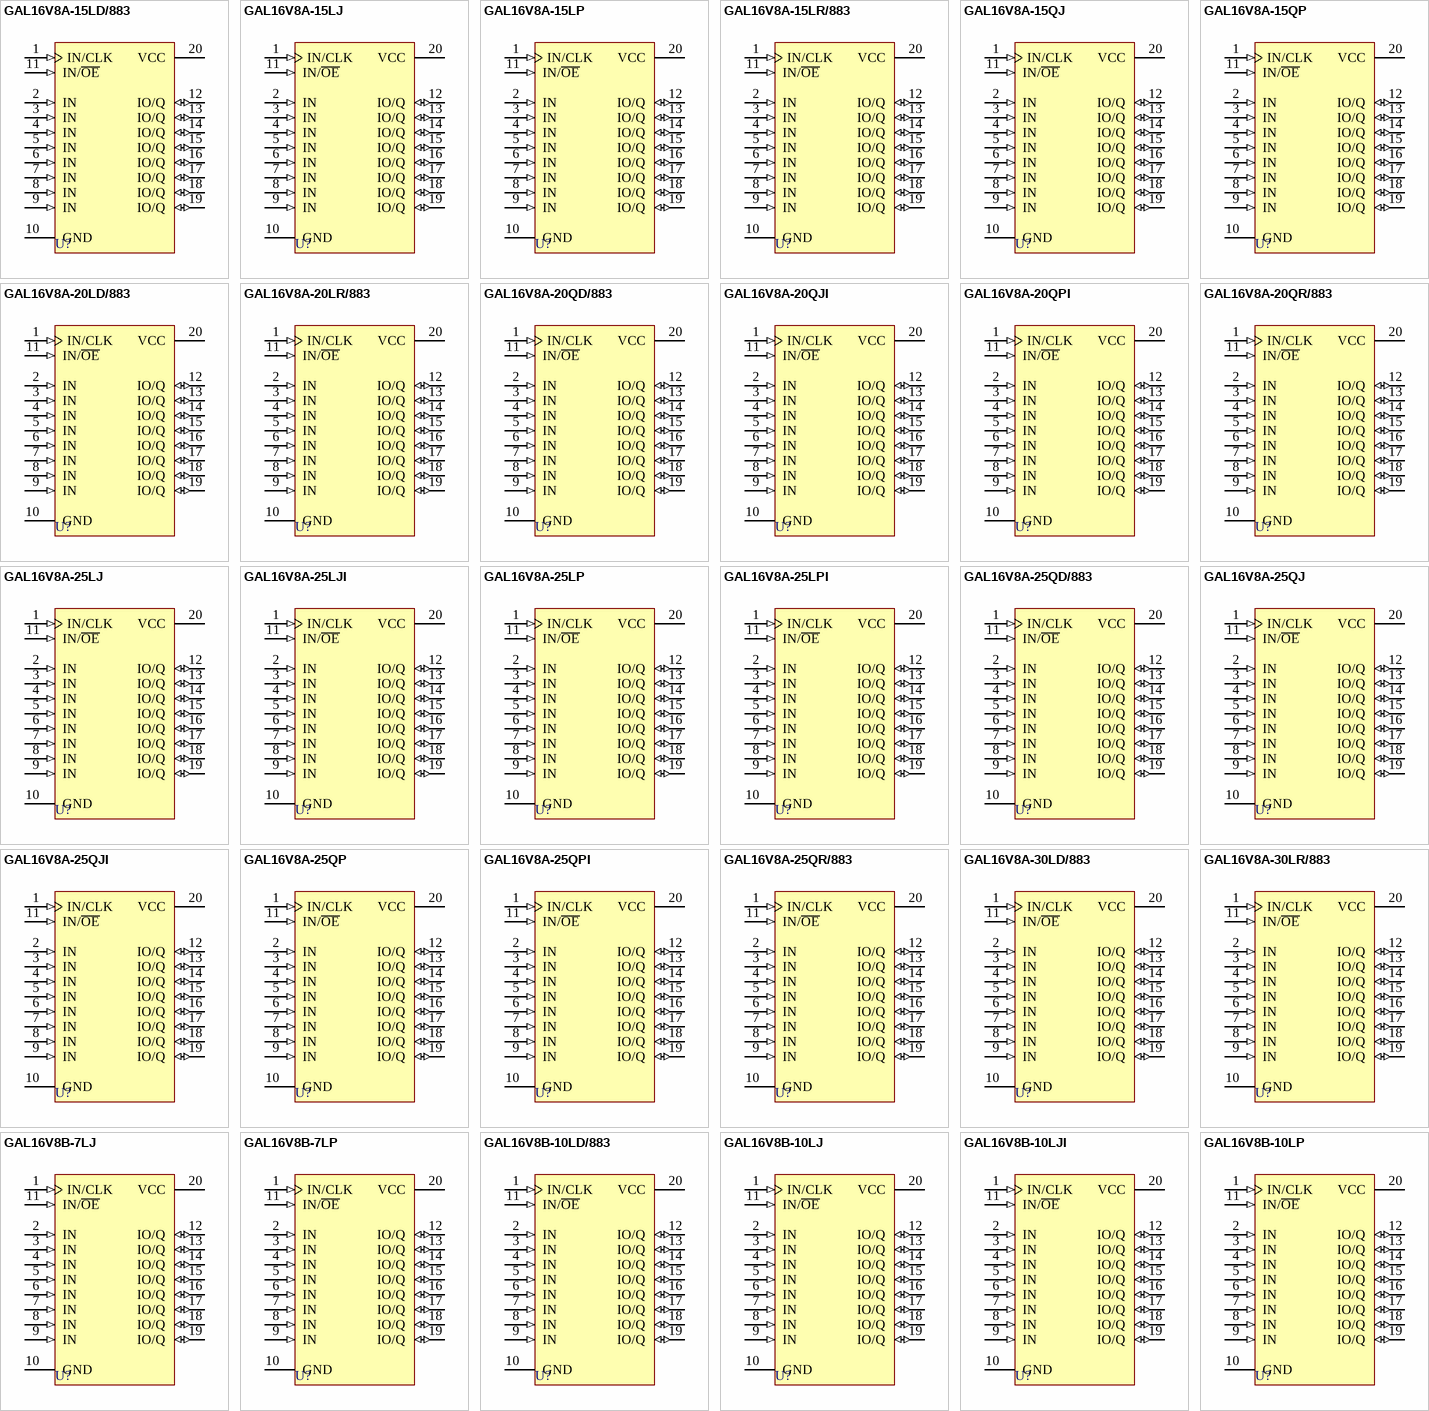
[diagram p1: symbols GAL16V8A-15LD/883 to GAL16V8B-10LP]

## GAL16V8A-15LD/883
designator U?
GAL16V8A/883 High Performance E²CMOS PLD Generic Array Logic: 5.0 V, 15 ns, Military Grade; Published: 8-Jun-2000; LatestRevisionDate: 04-Mar-2005; LatestRevisionNote: Stylized 3D Model Added.; DatasheetVersion: May-1992; PackageVersion: pkg_32, Aug-2005; PackageReference: CDIP20; Publisher: Altium Limited; PackageDescription: CerDIP; 20 Leads; Row Spacing 7.62 mm; Pitch 2.54 mm; ComponentLink1Description: Manufacturer Link; ComponentLink1URL: http://www.latticesemi.com/products/spld/GAL/index.cfm
footprint CDIP20 (CerDIP; 20 Leads; Row Spacing 7.62 mm; Pitch 2.54 mm)
3D model CDIP20 (CerDIP; 20 Leads; Row Spacing 7.62 mm; Pitch 2.54 mm)
pins: 1 IN/CLK (in), 2 IN (in), 3 IN (in), 4 IN (in), 5 IN (in), 6 IN (in), 7 IN (in), 8 IN (in), 9 IN (in), 10 GND (power), 11 IN/~{OE} (in), 12 IO/Q (io), 13 IO/Q (io), 14 IO/Q (io), 15 IO/Q (io), 16 IO/Q (io), 17 IO/Q (io), 18 IO/Q (io), 19 IO/Q (io), 20 VCC (power)

## GAL16V8A-15LJ
designator U?
GAL16V8A High Performance E²CMOS PLD Generic Array Logic: 5.0 V, 15 ns, Commercial Grade; Published: 8-Jun-2000; LatestRevisionDate: 13-Apr-2006; LatestRevisionNote: IPC-7351 Footprint Added.; DatasheetVersion: May-1992; PackageVersion: pkg_32, Aug-2005; PackageReference: PLCC20; Publisher: Altium Limited; PackageDescription: 20-Pin Leaded Chip Carrier 1.27 mm Pitch; Code_IPC: PLCC-20; ComponentLink1Description: Manufacturer Link; ComponentLink1URL: http://www.latticesemi.com/products/spld/GAL/index.cfm
footprint PLCC20_N (Leaded Chip Carrier, 20-Leads, Body 9x9mm, Pitch 1.27mm, IPC Medium Density)
footprint PLCC20_L (Leaded Chip Carrier, 20-Leads, Body 9x9mm, Pitch 1.27mm, IPC High Density)
footprint PLCC20_M (Leaded Chip Carrier, 20-Leads, Body 9x9mm, Pitch 1.27mm, IPC Low Density)
3D model 16V8-PLCC20 (20-Pin Leaded Chip Carrier 1.27 mm Pitch)
pins: 1 IN/CLK (in), 2 IN (in), 3 IN (in), 4 IN (in), 5 IN (in), 6 IN (in), 7 IN (in), 8 IN (in), 9 IN (in), 10 GND (power), 11 IN/~{OE} (in), 12 IO/Q (io), 13 IO/Q (io), 14 IO/Q (io), 15 IO/Q (io), 16 IO/Q (io), 17 IO/Q (io), 18 IO/Q (io), 19 IO/Q (io), 20 VCC (power)

## GAL16V8A-15LP
designator U?
GAL16V8A High Performance E²CMOS PLD Generic Array Logic: 5.0 V, 15 ns, Commercial Grade; Published: 8-Jun-2000; LatestRevisionDate: 04-Mar-2005; LatestRevisionNote: Stylized 3D Model Added.; DatasheetVersion: May-1992; PackageVersion: pkg_32, Aug-2005; PackageReference: PDIP20; Publisher: Altium Limited; PackageDescription: DIP; 20 Leads; Row Spacing 7.62 mm; Pitch 2.54 mm; Code_JEDEC: MS-001-AD; ComponentLink1Description: Manufacturer Link; ComponentLink1URL: http://www.latticesemi.com/products/spld/GAL/index.cfm
footprint PDIP20 (DIP; 20 Leads; Row Spacing 7.62 mm; Pitch 2.54 mm)
3D model PDIP20 (DIP; 20 Leads; Row Spacing 7.62 mm; Pitch 2.54 mm)
pins: 1 IN/CLK (in), 2 IN (in), 3 IN (in), 4 IN (in), 5 IN (in), 6 IN (in), 7 IN (in), 8 IN (in), 9 IN (in), 10 GND (power), 11 IN/~{OE} (in), 12 IO/Q (io), 13 IO/Q (io), 14 IO/Q (io), 15 IO/Q (io), 16 IO/Q (io), 17 IO/Q (io), 18 IO/Q (io), 19 IO/Q (io), 20 VCC (power)

## GAL16V8A-15LR/883
designator U?
GAL16V8A/883 High Performance E²CMOS PLD Generic Array Logic: 5.0 V, 15 ns, Military Grade; Published: 8-Jun-2000; LatestRevisionDate: 17-Jul-2002; LatestRevisionNote: Name changed from GAL16V8A-15LR/883C; Re-released for DXP Platform.; DatasheetVersion: May-1992; PackageVersion: pkg_32, Aug-2005; PackageReference: LCC20; Publisher: Altium Limited; PackageDescription: Leadless Chip Carrier; 20 Terminals; Body 8.9 x 8.9 mm; ComponentLink1Description: Manufacturer Link; ComponentLink1URL: http://www.latticesemi.com/products/spld/GAL/index.cfm
footprint LCC20 (Leadless Chip Carrier; 20 Terminals; Body 8.9 x 8.9 mm)
pins: 1 IN/CLK (in), 2 IN (in), 3 IN (in), 4 IN (in), 5 IN (in), 6 IN (in), 7 IN (in), 8 IN (in), 9 IN (in), 10 GND (power), 11 IN/~{OE} (in), 12 IO/Q (io), 13 IO/Q (io), 14 IO/Q (io), 15 IO/Q (io), 16 IO/Q (io), 17 IO/Q (io), 18 IO/Q (io), 19 IO/Q (io), 20 VCC (power)

## GAL16V8A-15QJ
designator U?
GAL16V8A High Performance E²CMOS PLD Generic Array Logic: 5.0 V, 15 ns, Commercial Grade; Published: 8-Jun-2000; LatestRevisionDate: 13-Apr-2006; LatestRevisionNote: IPC-7351 Footprint Added.; DatasheetVersion: May-1992; PackageVersion: pkg_32, Aug-2005; PackageReference: PLCC20; Publisher: Altium Limited; PackageDescription: 20-Pin Leaded Chip Carrier 1.27 mm Pitch; Code_IPC: PLCC-20; ComponentLink1Description: Manufacturer Link; ComponentLink1URL: http://www.latticesemi.com/products/spld/GAL/index.cfm
footprint PLCC20_N (Leaded Chip Carrier, 20-Leads, Body 9x9mm, Pitch 1.27mm, IPC Medium Density)
footprint PLCC20_L (Leaded Chip Carrier, 20-Leads, Body 9x9mm, Pitch 1.27mm, IPC High Density)
footprint PLCC20_M (Leaded Chip Carrier, 20-Leads, Body 9x9mm, Pitch 1.27mm, IPC Low Density)
3D model 16V8-PLCC20 (20-Pin Leaded Chip Carrier 1.27 mm Pitch)
pins: 1 IN/CLK (in), 2 IN (in), 3 IN (in), 4 IN (in), 5 IN (in), 6 IN (in), 7 IN (in), 8 IN (in), 9 IN (in), 10 GND (power), 11 IN/~{OE} (in), 12 IO/Q (io), 13 IO/Q (io), 14 IO/Q (io), 15 IO/Q (io), 16 IO/Q (io), 17 IO/Q (io), 18 IO/Q (io), 19 IO/Q (io), 20 VCC (power)

## GAL16V8A-15QP
designator U?
GAL16V8A High Performance E²CMOS PLD Generic Array Logic: 5.0 V, 15 ns, Commercial Grade; Published: 8-Jun-2000; LatestRevisionDate: 04-Mar-2005; LatestRevisionNote: Stylized 3D Model Added.; DatasheetVersion: May-1992; PackageVersion: pkg_32, Aug-2005; PackageReference: PDIP20; Publisher: Altium Limited; PackageDescription: DIP; 20 Leads; Row Spacing 7.62 mm; Pitch 2.54 mm; Code_JEDEC: MS-001-AD; ComponentLink1Description: Manufacturer Link; ComponentLink1URL: http://www.latticesemi.com/products/spld/GAL/index.cfm
footprint PDIP20 (DIP; 20 Leads; Row Spacing 7.62 mm; Pitch 2.54 mm)
3D model PDIP20 (DIP; 20 Leads; Row Spacing 7.62 mm; Pitch 2.54 mm)
pins: 1 IN/CLK (in), 2 IN (in), 3 IN (in), 4 IN (in), 5 IN (in), 6 IN (in), 7 IN (in), 8 IN (in), 9 IN (in), 10 GND (power), 11 IN/~{OE} (in), 12 IO/Q (io), 13 IO/Q (io), 14 IO/Q (io), 15 IO/Q (io), 16 IO/Q (io), 17 IO/Q (io), 18 IO/Q (io), 19 IO/Q (io), 20 VCC (power)

## GAL16V8A-20LD/883
designator U?
GAL16V8A/883 High Performance E²CMOS PLD Generic Array Logic: 5.0 V, 20 ns, Military Grade; Published: 8-Jun-2000; LatestRevisionDate: 17-Sep-2003; LatestRevisionNote: PCB Footprint dimensions updated; DatasheetVersion: May-1992; PackageVersion: pkg_32, Aug-2005; PackageReference: CDIP20; Publisher: Altium Limited; PackageDescription: CerDIP; 20 Leads; Row Spacing 7.62 mm; Pitch 2.54 mm; ComponentLink1Description: Manufacturer Link; ComponentLink1URL: http://www.latticesemi.com/products/spld/GAL/index.cfm
footprint CDIP20 (CerDIP; 20 Leads; Row Spacing 7.62 mm; Pitch 2.54 mm)
3D model CDIP20 (CerDIP; 20 Leads; Row Spacing 7.62 mm; Pitch 2.54 mm)
pins: 1 IN/CLK (in), 2 IN (in), 3 IN (in), 4 IN (in), 5 IN (in), 6 IN (in), 7 IN (in), 8 IN (in), 9 IN (in), 10 GND (power), 11 IN/~{OE} (in), 12 IO/Q (io), 13 IO/Q (io), 14 IO/Q (io), 15 IO/Q (io), 16 IO/Q (io), 17 IO/Q (io), 18 IO/Q (io), 19 IO/Q (io), 20 VCC (power)

## GAL16V8A-20LR/883
designator U?
GAL16V8A/883 High Performance E²CMOS PLD Generic Array Logic: 5.0 V, 20 ns, Military Grade; Published: 8-Jun-2000; LatestRevisionDate: 17-Jul-2002; LatestRevisionNote: Name changed from GAL16V8A-20LR/883C; Re-released for DXP Platform.; DatasheetVersion: May-1992; PackageVersion: pkg_32, Aug-2005; PackageReference: LCC20; Publisher: Altium Limited; PackageDescription: Leadless Chip Carrier; 20 Terminals; Body 8.9 x 8.9 mm; ComponentLink1Description: Manufacturer Link; ComponentLink1URL: http://www.latticesemi.com/products/spld/GAL/index.cfm
footprint LCC20 (Leadless Chip Carrier; 20 Terminals; Body 8.9 x 8.9 mm)
pins: 1 IN/CLK (in), 2 IN (in), 3 IN (in), 4 IN (in), 5 IN (in), 6 IN (in), 7 IN (in), 8 IN (in), 9 IN (in), 10 GND (power), 11 IN/~{OE} (in), 12 IO/Q (io), 13 IO/Q (io), 14 IO/Q (io), 15 IO/Q (io), 16 IO/Q (io), 17 IO/Q (io), 18 IO/Q (io), 19 IO/Q (io), 20 VCC (power)

## GAL16V8A-20QD/883
designator U?
GAL16V8A/883 High Performance E²CMOS PLD Generic Array Logic: 5.0 V, 20 ns, Military Grade; Published: 8-Jun-2000; LatestRevisionDate: 04-Mar-2005; LatestRevisionNote: Stylized 3D Model Added.; DatasheetVersion: May-1992; PackageVersion: pkg_32, Aug-2005; PackageReference: CDIP20; Publisher: Altium Limited; PackageDescription: CerDIP; 20 Leads; Row Spacing 7.62 mm; Pitch 2.54 mm; ComponentLink1Description: Manufacturer Link; ComponentLink1URL: http://www.latticesemi.com/products/spld/GAL/index.cfm
footprint CDIP20 (CerDIP; 20 Leads; Row Spacing 7.62 mm; Pitch 2.54 mm)
3D model CDIP20 (CerDIP; 20 Leads; Row Spacing 7.62 mm; Pitch 2.54 mm)
pins: 1 IN/CLK (in), 2 IN (in), 3 IN (in), 4 IN (in), 5 IN (in), 6 IN (in), 7 IN (in), 8 IN (in), 9 IN (in), 10 GND (power), 11 IN/~{OE} (in), 12 IO/Q (io), 13 IO/Q (io), 14 IO/Q (io), 15 IO/Q (io), 16 IO/Q (io), 17 IO/Q (io), 18 IO/Q (io), 19 IO/Q (io), 20 VCC (power)

## GAL16V8A-20QJI
designator U?
GAL16V8A High Performance E²CMOS PLD Generic Array Logic: 5.0 V, 20 ns, Industrial Grade; Published: 8-Jun-2000; LatestRevisionDate: 13-Apr-2006; LatestRevisionNote: IPC-7351 Footprint Added.; DatasheetVersion: May-1992; PackageVersion: pkg_32, Aug-2005; PackageReference: PLCC20; Publisher: Altium Limited; PackageDescription: 20-Pin Leaded Chip Carrier 1.27 mm Pitch; Code_IPC: PLCC-20; ComponentLink1Description: Manufacturer Link; ComponentLink1URL: http://www.latticesemi.com/products/spld/GAL/index.cfm
footprint PLCC20_N (Leaded Chip Carrier, 20-Leads, Body 9x9mm, Pitch 1.27mm, IPC Medium Density)
footprint PLCC20_L (Leaded Chip Carrier, 20-Leads, Body 9x9mm, Pitch 1.27mm, IPC High Density)
footprint PLCC20_M (Leaded Chip Carrier, 20-Leads, Body 9x9mm, Pitch 1.27mm, IPC Low Density)
3D model 16V8-PLCC20 (20-Pin Leaded Chip Carrier 1.27 mm Pitch)
pins: 1 IN/CLK (in), 2 IN (in), 3 IN (in), 4 IN (in), 5 IN (in), 6 IN (in), 7 IN (in), 8 IN (in), 9 IN (in), 10 GND (power), 11 IN/~{OE} (in), 12 IO/Q (io), 13 IO/Q (io), 14 IO/Q (io), 15 IO/Q (io), 16 IO/Q (io), 17 IO/Q (io), 18 IO/Q (io), 19 IO/Q (io), 20 VCC (power)

## GAL16V8A-20QPI
designator U?
GAL16V8A High Performance E²CMOS PLD Generic Array Logic: 5.0 V, 20 ns, Industrial Grade; Published: 8-Jun-2000; LatestRevisionDate: 04-Mar-2005; LatestRevisionNote: Stylized 3D Model Added.; DatasheetVersion: May-1992; PackageVersion: pkg_32, Aug-2005; PackageReference: PDIP20; Publisher: Altium Limited; PackageDescription: DIP; 20 Leads; Row Spacing 7.62 mm; Pitch 2.54 mm; Code_JEDEC: MS-001-AD; ComponentLink1Description: Manufacturer Link; ComponentLink1URL: http://www.latticesemi.com/products/spld/GAL/index.cfm
footprint PDIP20 (DIP; 20 Leads; Row Spacing 7.62 mm; Pitch 2.54 mm)
3D model PDIP20 (DIP; 20 Leads; Row Spacing 7.62 mm; Pitch 2.54 mm)
pins: 1 IN/CLK (in), 2 IN (in), 3 IN (in), 4 IN (in), 5 IN (in), 6 IN (in), 7 IN (in), 8 IN (in), 9 IN (in), 10 GND (power), 11 IN/~{OE} (in), 12 IO/Q (io), 13 IO/Q (io), 14 IO/Q (io), 15 IO/Q (io), 16 IO/Q (io), 17 IO/Q (io), 18 IO/Q (io), 19 IO/Q (io), 20 VCC (power)

## GAL16V8A-20QR/883
designator U?
GAL16V8A/883 High Performance E²CMOS PLD Generic Array Logic: 5.0 V, 20 ns, Military Grade; Published: 8-Jun-2000; LatestRevisionDate: 17-Jul-2002; LatestRevisionNote: Name changed from GAL16V8A-20QR/883C; Re-released for DXP Platform.; DatasheetVersion: May-1992; PackageVersion: pkg_32, Aug-2005; PackageReference: LCC20; Publisher: Altium Limited; PackageDescription: Leadless Chip Carrier; 20 Terminals; Body 8.9 x 8.9 mm; ComponentLink1Description: Manufacturer Link; ComponentLink1URL: http://www.latticesemi.com/products/spld/GAL/index.cfm
footprint LCC20 (Leadless Chip Carrier; 20 Terminals; Body 8.9 x 8.9 mm)
pins: 1 IN/CLK (in), 2 IN (in), 3 IN (in), 4 IN (in), 5 IN (in), 6 IN (in), 7 IN (in), 8 IN (in), 9 IN (in), 10 GND (power), 11 IN/~{OE} (in), 12 IO/Q (io), 13 IO/Q (io), 14 IO/Q (io), 15 IO/Q (io), 16 IO/Q (io), 17 IO/Q (io), 18 IO/Q (io), 19 IO/Q (io), 20 VCC (power)

## GAL16V8A-25LJ
designator U?
GAL16V8A High Performance E²CMOS PLD Generic Array Logic: 5.0 V, 25 ns, Commercial Grade; Published: 8-Jun-2000; LatestRevisionDate: 13-Apr-2006; LatestRevisionNote: IPC-7351 Footprint Added.; DatasheetVersion: May-1992; PackageVersion: pkg_32, Aug-2005; PackageReference: PLCC20; Publisher: Altium Limited; PackageDescription: 20-Pin Leaded Chip Carrier 1.27 mm Pitch; Code_IPC: PLCC-20; ComponentLink1Description: Manufacturer Link; ComponentLink1URL: http://www.latticesemi.com/products/spld/GAL/index.cfm
footprint PLCC20_N (Leaded Chip Carrier, 20-Leads, Body 9x9mm, Pitch 1.27mm, IPC Medium Density)
footprint PLCC20_L (Leaded Chip Carrier, 20-Leads, Body 9x9mm, Pitch 1.27mm, IPC High Density)
footprint PLCC20_M (Leaded Chip Carrier, 20-Leads, Body 9x9mm, Pitch 1.27mm, IPC Low Density)
3D model 16V8-PLCC20 (20-Pin Leaded Chip Carrier 1.27 mm Pitch)
pins: 1 IN/CLK (in), 2 IN (in), 3 IN (in), 4 IN (in), 5 IN (in), 6 IN (in), 7 IN (in), 8 IN (in), 9 IN (in), 10 GND (power), 11 IN/~{OE} (in), 12 IO/Q (io), 13 IO/Q (io), 14 IO/Q (io), 15 IO/Q (io), 16 IO/Q (io), 17 IO/Q (io), 18 IO/Q (io), 19 IO/Q (io), 20 VCC (power)

## GAL16V8A-25LJI
designator U?
GAL16V8A High Performance E²CMOS PLD Generic Array Logic: 5.0 V, 25 ns, Industrial Grade; Published: 8-Jun-2000; LatestRevisionDate: 13-Apr-2006; LatestRevisionNote: IPC-7351 Footprint Added.; DatasheetVersion: May-1992; PackageVersion: pkg_32, Aug-2005; PackageReference: PLCC20; Publisher: Altium Limited; PackageDescription: 20-Pin Leaded Chip Carrier 1.27 mm Pitch; Code_IPC: PLCC-20; ComponentLink1Description: Manufacturer Link; ComponentLink1URL: http://www.latticesemi.com/products/spld/GAL/index.cfm
footprint PLCC20_N (Leaded Chip Carrier, 20-Leads, Body 9x9mm, Pitch 1.27mm, IPC Medium Density)
footprint PLCC20_L (Leaded Chip Carrier, 20-Leads, Body 9x9mm, Pitch 1.27mm, IPC High Density)
footprint PLCC20_M (Leaded Chip Carrier, 20-Leads, Body 9x9mm, Pitch 1.27mm, IPC Low Density)
3D model 16V8-PLCC20 (20-Pin Leaded Chip Carrier 1.27 mm Pitch)
pins: 1 IN/CLK (in), 2 IN (in), 3 IN (in), 4 IN (in), 5 IN (in), 6 IN (in), 7 IN (in), 8 IN (in), 9 IN (in), 10 GND (power), 11 IN/~{OE} (in), 12 IO/Q (io), 13 IO/Q (io), 14 IO/Q (io), 15 IO/Q (io), 16 IO/Q (io), 17 IO/Q (io), 18 IO/Q (io), 19 IO/Q (io), 20 VCC (power)

## GAL16V8A-25LP
designator U?
GAL16V8A High Performance E²CMOS PLD Generic Array Logic: 5.0 V, 25 ns, Commercial Grade; Published: 8-Jun-2000; LatestRevisionDate: 04-Mar-2005; LatestRevisionNote: Stylized 3D Model Added.; DatasheetVersion: May-1992; PackageVersion: pkg_32, Aug-2005; PackageReference: PDIP20; Publisher: Altium Limited; PackageDescription: DIP; 20 Leads; Row Spacing 7.62 mm; Pitch 2.54 mm; Code_JEDEC: MS-001-AD; ComponentLink1Description: Manufacturer Link; ComponentLink1URL: http://www.latticesemi.com/products/spld/GAL/index.cfm
footprint PDIP20 (DIP; 20 Leads; Row Spacing 7.62 mm; Pitch 2.54 mm)
3D model PDIP20 (DIP; 20 Leads; Row Spacing 7.62 mm; Pitch 2.54 mm)
pins: 1 IN/CLK (in), 2 IN (in), 3 IN (in), 4 IN (in), 5 IN (in), 6 IN (in), 7 IN (in), 8 IN (in), 9 IN (in), 10 GND (power), 11 IN/~{OE} (in), 12 IO/Q (io), 13 IO/Q (io), 14 IO/Q (io), 15 IO/Q (io), 16 IO/Q (io), 17 IO/Q (io), 18 IO/Q (io), 19 IO/Q (io), 20 VCC (power)

## GAL16V8A-25LPI
designator U?
GAL16V8A High Performance E²CMOS PLD Generic Array Logic: 5.0 V, 25 ns, Industrial Grade; Published: 8-Jun-2000; LatestRevisionDate: 04-Mar-2005; LatestRevisionNote: Stylized 3D Model Added.; DatasheetVersion: May-1992; PackageVersion: pkg_32, Aug-2005; PackageReference: PDIP20; Publisher: Altium Limited; PackageDescription: DIP; 20 Leads; Row Spacing 7.62 mm; Pitch 2.54 mm; Code_JEDEC: MS-001-AD; ComponentLink1Description: Manufacturer Link; ComponentLink1URL: http://www.latticesemi.com/products/spld/GAL/index.cfm
footprint PDIP20 (DIP; 20 Leads; Row Spacing 7.62 mm; Pitch 2.54 mm)
3D model PDIP20 (DIP; 20 Leads; Row Spacing 7.62 mm; Pitch 2.54 mm)
pins: 1 IN/CLK (in), 2 IN (in), 3 IN (in), 4 IN (in), 5 IN (in), 6 IN (in), 7 IN (in), 8 IN (in), 9 IN (in), 10 GND (power), 11 IN/~{OE} (in), 12 IO/Q (io), 13 IO/Q (io), 14 IO/Q (io), 15 IO/Q (io), 16 IO/Q (io), 17 IO/Q (io), 18 IO/Q (io), 19 IO/Q (io), 20 VCC (power)

## GAL16V8A-25QD/883
designator U?
GAL16V8A/883 High Performance E²CMOS PLD Generic Array Logic: 5.0 V, 25 ns, Military Grade; Published: 8-Jun-2000; LatestRevisionDate: 17-Sep-2003; LatestRevisionNote: PCB Footprint dimensions updated; DatasheetVersion: May-1992; PackageVersion: pkg_32, Aug-2005; PackageReference: CDIP20; Publisher: Altium Limited; PackageDescription: CerDIP; 20 Leads; Row Spacing 7.62 mm; Pitch 2.54 mm; ComponentLink1Description: Manufacturer Link; ComponentLink1URL: http://www.latticesemi.com/products/spld/GAL/index.cfm
footprint CDIP20 (CerDIP; 20 Leads; Row Spacing 7.62 mm; Pitch 2.54 mm)
3D model CDIP20 (CerDIP; 20 Leads; Row Spacing 7.62 mm; Pitch 2.54 mm)
pins: 1 IN/CLK (in), 2 IN (in), 3 IN (in), 4 IN (in), 5 IN (in), 6 IN (in), 7 IN (in), 8 IN (in), 9 IN (in), 10 GND (power), 11 IN/~{OE} (in), 12 IO/Q (io), 13 IO/Q (io), 14 IO/Q (io), 15 IO/Q (io), 16 IO/Q (io), 17 IO/Q (io), 18 IO/Q (io), 19 IO/Q (io), 20 VCC (power)